# Altium footprint library DIP-18 DS1019-18N.PcbLib: 2 footprints
Each footprint in its own frame and in the unit in brackets; x right, y up, seen from the top. Pads: shape width x height; smd on the part's side, far side on the other; paste and mask are expansions set on the pad; w line width, h text height; cw(c..) or ccw(c..) is an arc to the next point about the centre after c.
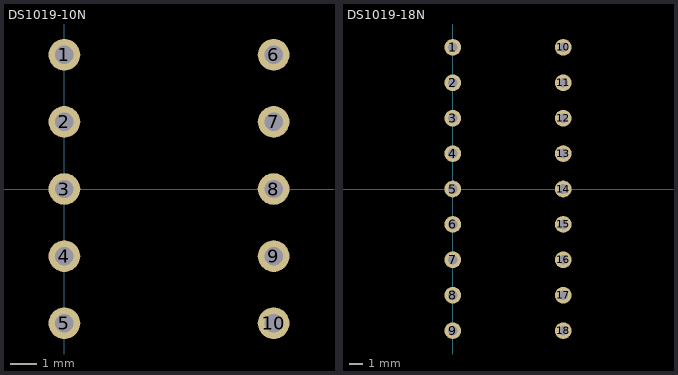
[diagram p0: the footprints below, top view; thin cyan lines are the x and y axes]

## DS1019-10N [mm]
pads (10):
  round 1.2 hole 0.7: 1(0,5.08) 2(0,2.54) 3(0,0) 4(0,-2.54) 5(0,-5.08) 6(7.92,5.08) 7(7.92,2.54) 8(7.92,0) 9(7.92,-2.54) 10(7.92,-5.08)

## DS1019-18N [mm]
pads (18):
  round 1.2 hole 0.7: 1(0,10.16) 2(0,7.62) 3(0,5.08) 4(0,2.54) 5(0,0) 6(0,-2.54) 7(0,-5.08) 8(0,-7.62) 9(0,-10.16) 10(7.92,10.16) 11(7.92,7.62) 12(7.92,5.08) 13(7.92,2.54) 14(7.92,0) 15(7.92,-2.54) 16(7.92,-5.08) 17(7.92,-7.62) 18(7.92,-10.16)
3D body "DIP_2x9.x_t": height 7.2, standoff -3.3, extent -1.325,-13.39 9.275,13.35